# Altium schematic symbol library SIT2001BI-S2-33E-12.000000G.SchLib: 1 symbol
Pins are listed as number, name and electrical type; pins without a type are passive.

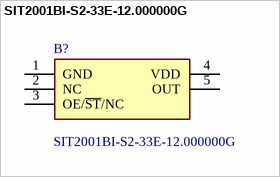
[diagram p0: symbol SIT2001BI-S2-33E-12.000000G]

## SIT2001BI-S2-33E-12.000000G
designator B?
SITIME - SIT2001BI-S2-33E-12.000000G - CLOCK GENERATOR, 1-O/P, 12MHZ, SOT-23-5; Geometry.Height: 1.3mm; RS Part Number: *; RS Price/Stock: *; Manufacturer_Name: SiTime; Manufacturer_Part_Number: SIT2001BI-S2-33E-12.000000G; Datasheet Link: https://datasheet.datasheetarchive.com/originals/distributors/DKDS42/DSANUWW0050454.pdf
footprint SOT95P280X130-5N
pins: 1 GND, 2 NC, 3 OE/~{ST}/NC, 4 VDD, 5 OUT